# EAGLE library part 693071030811 (library WR-CRD)
WR-CRD SD Card Connectors Characteristics Available in two form factors: SD and MicroSD Available in three entry types: Push-Pull, Hinge and Push-Push SD 4.0 available in SD form factor for higher transfer speed Applications Single-board computers Surveillance systems Industrial data logging Consumer Electronics Drones <https://www.we-online.com/components/media/o32845v209%20Family_ConCRD_693071010811.jpg> Details see: www.we-online.com/components/products/WR-CRD_CARD_CONNECTORS_SD2 <www.we-online.com/catalog/WR-CRD_CARD_CONNECTORS_SD2/?utm_source=eagle_model&utm_medium=description_link&utm_campaign=eisos_eagle> Updated by Ella Wu 2020-04-15 2020(C) Wurth Elektronik
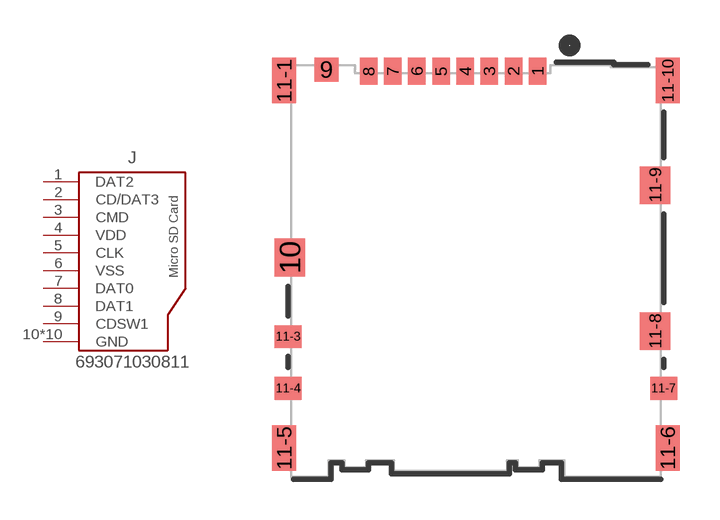
[diagram p2: symbol with the pads of 693071030811; footprint 693071030811]

Designator prefix J

## 693071030811 (DATASHEET-URL: https://www.we-online.com/redexpert/spec/693071030811?ae; DURABILITY: 10000 Mating cycles; GERDER: Socket; MOUNT: SMT; PART-NUMBER: 693071030811; PINS: 8pcs; SIZE: Micro SD; TYPE: Push & Push; VALUE: 693071030811)  [693071030811]
1  DAT2  pas
2  CD/DAT3  pas
3  CMD  pas
4  VDD  pas
5  CLK  pas
6  VSS  pas
7  DAT0  pas
8  DAT1  pas
9  CDSW1  pas
10  GND  pas
11-1  GND  pas
11-3  GND  pas
11-4  GND  pas
11-5  GND  pas
11-6  GND  pas
11-7  GND  pas
11-8  GND  pas
11-9  GND  pas
11-10  GND  pas

## Footprint 693071030811 (pad centres in mm)
WR-CRD Micro SD Card Connector Push & Push 8 pins
smd 0.65 x 1: 1 2.3,7.445; 2 1.4,7.445; 3 0.5,7.445; 4 -0.4,7.445; 5 -1.3,7.445; 6 -2.2,7.445; 7 -3.1,7.445; 8 -4,7.445
smd 0.9 x 0.9: 9 -5.57,7.495
smd 1.13 x 1.4: 10 -6.935,0.495; 11-8 6.68,-2.255; 11-9 6.68,3.195
smd 0.9 x 1.7: 11-1 -7.15,7.095; 11-5 -7.15,-6.605; 11-6 7.15,-6.605; 11-10 7.15,7.095
smd 1 x 0.85: 11-3 -7,-2.455; 11-4 -7,-4.385; 11-7 7,-4.385